# Altium schematic symbol library VGA Mux.SchLib: 3 symbols
Pins are listed as number, name and electrical type; pins without a type are passive.

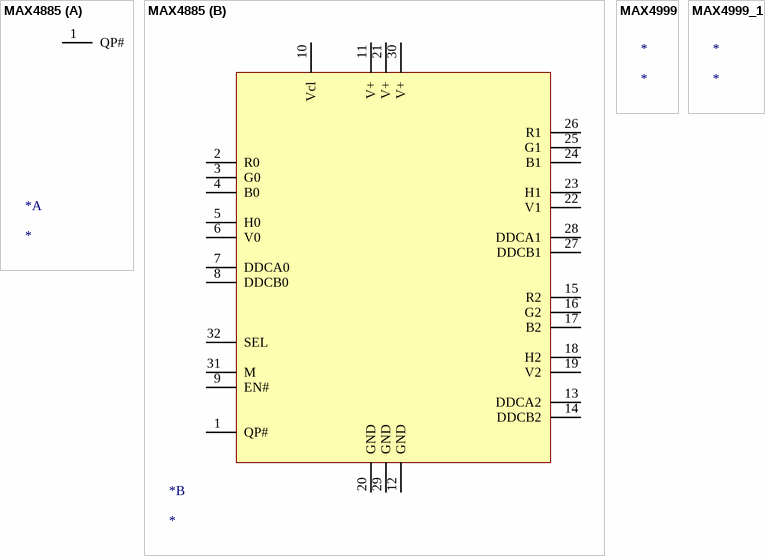
[diagram p0: symbols MAX4885 to MAX4999_1]

## MAX4885
designator *
footprint QFN50P500X500X80-32M (QFN, 32-Leads, Body 5.1x5.1mm (max), Pitch 0.50mm, IPC Low Density)
part A pins: 1 QP#
part B pins: 1 QP#, 2 R0, 3 G0, 4 B0, 5 H0, 6 V0, 7 DDCA0, 8 DDCB0, 9 EN#, 10 Vcl, 11 V+, 12 GND, 13 DDCA2, 14 DDCB2, 15 R2, 16 G2, 17 B2, 18 H2, 19 V2, 20 GND, 21 V+, 22 V1, 23 H1, 24 B1, 25 G1, 26 R1, 27 DDCB1, 28 DDCA1, 29 GND, 30 V+, 31 M, 32 SEL

## MAX4999
designator *
footprint QFN50P500X500X80-32M (QFN, 32-Leads, Body 5.1x5.1mm (max), Pitch 0.50mm, IPC Low Density)

## MAX4999_1
designator *
footprint QFN50P500X500X80-32M (QFN, 32-Leads, Body 5.1x5.1mm (max), Pitch 0.50mm, IPC Low Density)